# Altium schematic symbol library TDA7056B.SchLib: 1 symbol
Pins are listed as number, name and electrical type; pins without a type are passive.

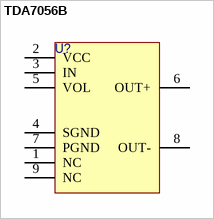
[diagram p0: symbol TDA7056B]

## TDA7056B
designator U?  (value not drawn)
pins: 1 NC, 2 VCC, 3 IN, 4 SGND, 5 VOL, 6 OUT+, 7 PGND, 8 OUT-, 9 NC